# Altium footprint library PcbLib1.PcbLib: 53 footprints (part 1 of 4)
Each footprint in its own frame and in the unit in brackets; x right, y up, seen from the top. Pads: shape width x height; smd on the part's side, far side on the other; paste and mask are expansions set on the pad; w line width, h text height; cw(c..) or ccw(c..) is an arc to the next point about the centre after c.
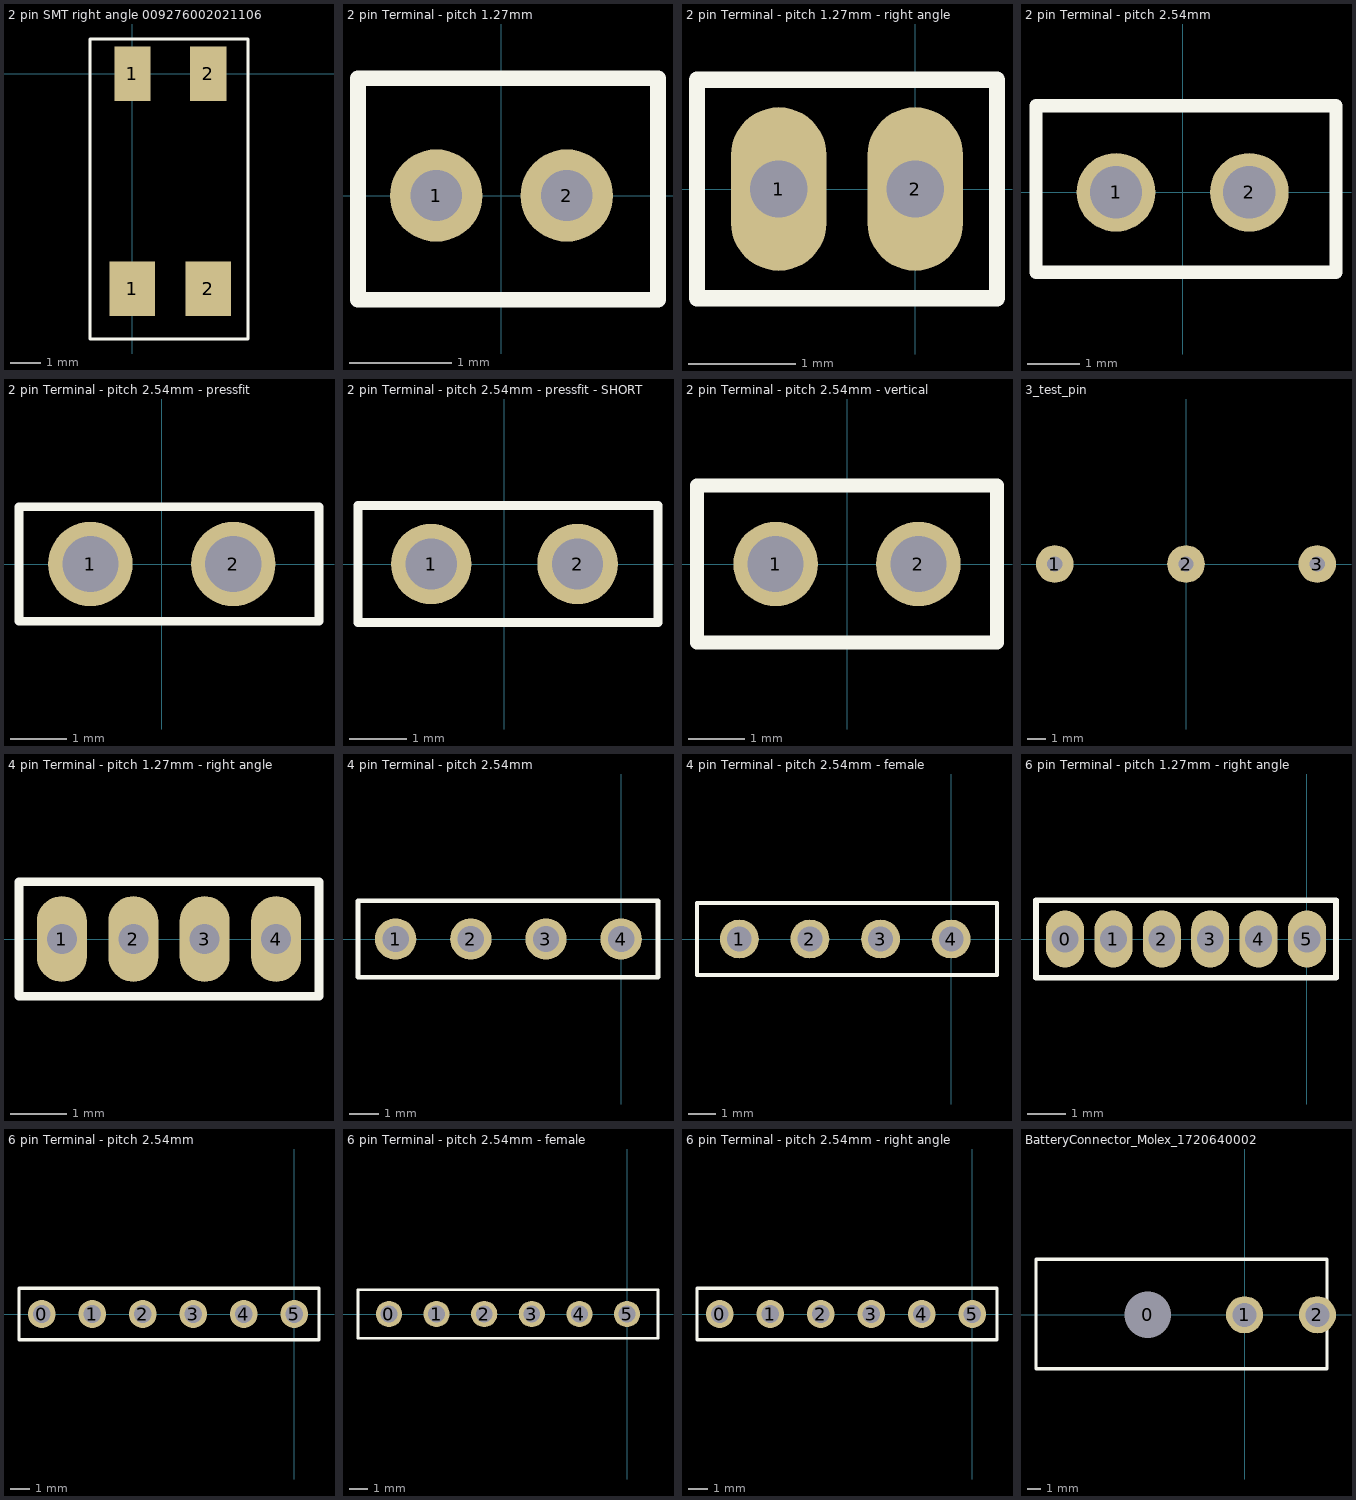
[diagram p0: the footprints below, top view; thin cyan lines are the x and y axes]

## 2 pin SMT right angle 009276002021106 [mm]
pads (4):
  rect 1.5x1.8 smd: 1(0,-7.1) 2(2.5,-7.1)
  rect 1.2x1.8 smd: 1(0,0) 2(2.5,0)
Top Overlay:
  lines w0.1: 3.025,1.143 3.81,1.143 3.81,-8.763 -1.397,-8.763 -1.397,1.143 3.175,1.143
3D body "AVX Interconnect-00-9276-002-021-906.STEP": height 5, standoff -0.1, extent -1.27,-8.31 3.73,0.69

## 2 pin Terminal - pitch 1.27mm [mm]
height 10
pads (2):
  round 0.9 hole 0.5: 1(-0.635,0) 2(0.635,0)
Top Overlay:
  lines w0.152: -1.397,-1.016 -1.397,1.143 1.524,1.143 1.524,-1.016 -1.397,-1.016
3D body "pcb_connector_850-80-002-10-001101.stp": height 5.2, standoff -2.9, extent -1.426,-1.016 1.524,1.184

## 2 pin Terminal - pitch 1.27mm - right angle [mil] "Right angle, male pin"
pads (2):
  oval 35x60 hole 21: 1(-50,0) 2(0,0)
Top Overlay:
  lines w6: -80,-40 -80,40 30,40 30,-40 -80,-40
3D body "pcb_connector_851-87-002-10-001101.stp": height 102.36, standoff 15.75, extent -83.07,70 33.07,321.97
3D body "_ _ _B021VWCN-RC.STEP": height 91.73, standoff -90.75, extent -75,-7.44 25,187.44

## 2 pin Terminal - pitch 2.54mm [mm]
height 10
pads (2):
  round 1.5 hole 1: 1(-1.27,0) 2(1.27,0)
Top Overlay:
  lines w0.254: -2.794,-1.524 2.921,-1.524 2.921,1.651 -2.794,1.651 -2.794,-1.524
3D body "3M connector - 961102-5604-XX.stp": height 4.22, standoff -6.1, extent -2.54,-1.27 2.54,4.53

## 2 pin Terminal - pitch 2.54mm - pressfit [mm]
height 10
pads (2):
  round 1.5 hole 1: 1(-1.27,0) 2(1.27,0)
Top Overlay:
  lines w0.152: -2.54,-1.016 -2.54,1.016 2.794,1.016 2.794,-1.016 -2.54,-1.016
3D body "mill-max-801-93-002-20-001000.step": height 1.8, standoff -3.89, extent -2.413,-0.372 2.667,8.246

## 2 pin Terminal - pitch 2.54mm - pressfit - SHORT [mil]
height 393.7
pads (2):
  round 55 hole 35: 1(-50,0) 2(50,0)
Top Overlay:
  lines w6: -100,-40 -100,40 105,40 105,-40 -100,-40
3D body "mill-max-399-13-102-10-003000.step": height 100, standoff -125.88, extent -100,-14.44 100,214.44

## 2 pin Terminal - pitch 2.54mm - vertical [mm]
height 10
pads (2):
  round 1.5 hole 1: 1(-1.27,0) 2(1.27,0)
Top Overlay:
  lines w0.254: -2.667,-1.397 2.667,-1.397 2.667,1.397 -2.667,1.397 -2.667,-1.397
3D body "Molex-2pin-901200122.stp": height 9.25, standoff -2.87, extent -2.54,-1.25 2.54,1.25

## 3_test_pin [mm]
pads (3):
  round 2 hole 0.8: 1(-7,0) 2(0,0) 3(7,0)

## 4 pin Terminal - pitch 1.27mm - right angle [mil] "Right angle, male pin"
pads (4):
  oval 35x60 hole 21: 1(-250,0) 2(-200,0) 3(-150,0) 4(-100,0)
Top Overlay:
  lines w6: -280,-40 -70,-40 -70,40 -280,40 -280,-40
3D body "_ _ _B041NFFN-RC.STEP": height 94.49, standoff 7.87, extent -280.75,70 -65,365.28
3D body "_ _ _B041VWCN-RC.STEP": height 91.73, standoff -90.75, extent -275,-7.44 -75,187.44

## 4 pin Terminal - pitch 2.54mm [mil]
pads (4):
  round 55 / inner round 60 / far side round 55 hole 35: 1(-300,0) 2(-200,0) 3(-100,0) 4(0,0)
Top Overlay:
  lines w6: -350,-51 -350,51 49,51 49,-51 -350,-51
3D body "c-3-644456-4-j-3d.stp": height 395, standoff -110, extent -344.1,-45 44.1,47

## 4 pin Terminal - pitch 2.54mm - female [mil]
pads (4):
  round 55 / inner round 60 / far side round 55 hole 35: 1(-300,0) 2(-200,0) 3(-100,0) 4(0,0)
Top Overlay:
  lines w6: -360,-51 65,-51 65,51 -360,51 -360,-51
3D body "_ _ _C041LFBN-RC.STEP": height 334.65, standoff -125.98, extent -359.69,-50 60,50

## 6 pin Terminal - pitch 1.27mm - right angle [mm] "Right angle, male pin"
pads (6):
  oval 1x1.5 hole 0.7: 0(-6.35,0) 1(-5.08,0) 2(-3.81,0) 3(-2.54,0) 4(-1.27,0) 5(0,0)
Top Overlay:
  lines w0.152: -7.112,-1.016 -7.112,1.016 0.762,1.016 0.762,-1.016 -7.112,-1.016
3D body "_ _ _B061VWCN-RC.STEP": height 2.33, standoff -2.31, extent -6.985,-0.189 0.635,4.761

## 6 pin Terminal - pitch 2.54mm [mil]
pads (6):
  round 55 / inner round 60 / far side round 55 hole 35: 0(-500,0) 1(-400,0) 2(-300,0) 3(-200,0) 4(-100,0) 5(0,0)
Top Overlay:
  lines w6: -545,-51 49,-51 49,51 -545,51 -545,-51
3D body "c-3-644456-6-j-3d.stp": height 395, standoff -110, extent -539.09,-45.99 49.1,46.01

## 6 pin Terminal - pitch 2.54mm - female [mil]
pads (6):
  round 55 / inner round 60 / far side round 55 hole 35: 0(-500,0) 1(-400,0) 2(-300,0) 3(-200,0) 4(-100,0) 5(0,0)
Top Overlay:
  lines w6: -565,-51 -565,51 65,51 65,-51 -565,-51
3D body "_ _ _C061LFBN-RC.STEP": height 334.65, standoff -125.98, extent -559.84,-50 59.84,50

## 6 pin Terminal - pitch 2.54mm - right angle [mil] "Right angle, male pin"
pads (6):
  round 55 / inner round 60 / far side round 55 hole 35: 0(-500,0) 1(-400,0) 2(-300,0) 3(-200,0) 4(-100,0) 5(0,0)
Top Overlay:
  lines w6: -545,-51 49,-51 49,51 -545,51 -545,-51
3D body "MolexRightAngle_6pin_022052061.stp": height 263, standoff -109, extent -539.99,-353.99 50,46.51

## BatteryConnector_Molex_1720640002 [mm]
pads (3):
  round 3 hole 3.5 unplated paste-2539.97 mask+0: 0(-7.3,0)
  round 2.8 hole 1.8: 1(0,0) 2(5.5,0)
Top Overlay:
  lines w0.254: -15.748,-4.064 -15.748,4.191 6.223,4.191 6.223,-4.064 -15.748,-4.064
3D body "1720640002.stp": height 15.05, standoff -3.08, extent -15.739,-4.158 6.223,4.191